# Altium schematic symbol library SCH - DAC - TPS7A3001MDGNTEP.SCHLIB: 1 symbol
Pins are listed as number, name and electrical type; pins without a type are passive.

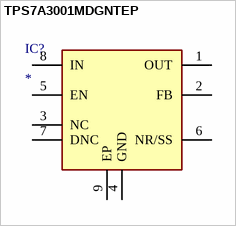
[diagram p0: symbol TPS7A3001MDGNTEP]

## TPS7A3001MDGNTEP
designator IC?
Integrated Circuit; Manufacturer_Name: Texas Instruments; Manufacturer_Part_Number: TPS7A3001MDGNTEP; Datasheet Link: http://www.ti.com/lit/gpn/tps7a3001-ep; Height: 1.1mm; Mouser2 Part Number: 595-TPS7A3001MDGNTEP; Mouser2 Price/Stock: https://www.mouser.com/Search/Refine.aspx?Keyword=595-TPS7A3001MDGNTEP
footprint SOP65P490X110-9N
pins: 1 OUT, 2 FB, 3 NC, 4 GND, 5 EN, 6 NR/SS, 7 DNC, 8 IN, 9 EP